# Altium schematic symbol library TSW-120-05-G-S.SchLib: 1 symbol
Pins are listed as number, name and electrical type; pins without a type are passive.

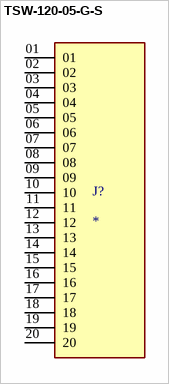
[diagram p0: symbol TSW-120-05-G-S]

## TSW-120-05-G-S
designator J?
MP: TSW-120-05-G-S; MF: {'manufacturer': u'Samtec'}; Availability: Unavailable; Package: None; Value: *; Price: None
footprint SAMTEC_TSW-120-05-G-S
pins: 01, 02, 03, 04, 05, 06, 07, 08, 09, 10, 11, 12, 13, 14, 15, 16, 17, 18, 19, 20